# Altium schematic symbol library Switch.SchLib: 1 symbol
Pins are listed as number, name and electrical type; pins without a type are passive.

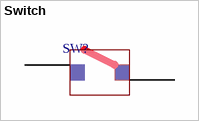
[diagram p0: symbol Switch]

## Switch
designator SW?  (value not drawn)
pins: 1, 2